# Altium schematic symbol library Schemati_design.SchLib: 14 symbols
Pins are listed as number, name and electrical type; pins without a type are passive.

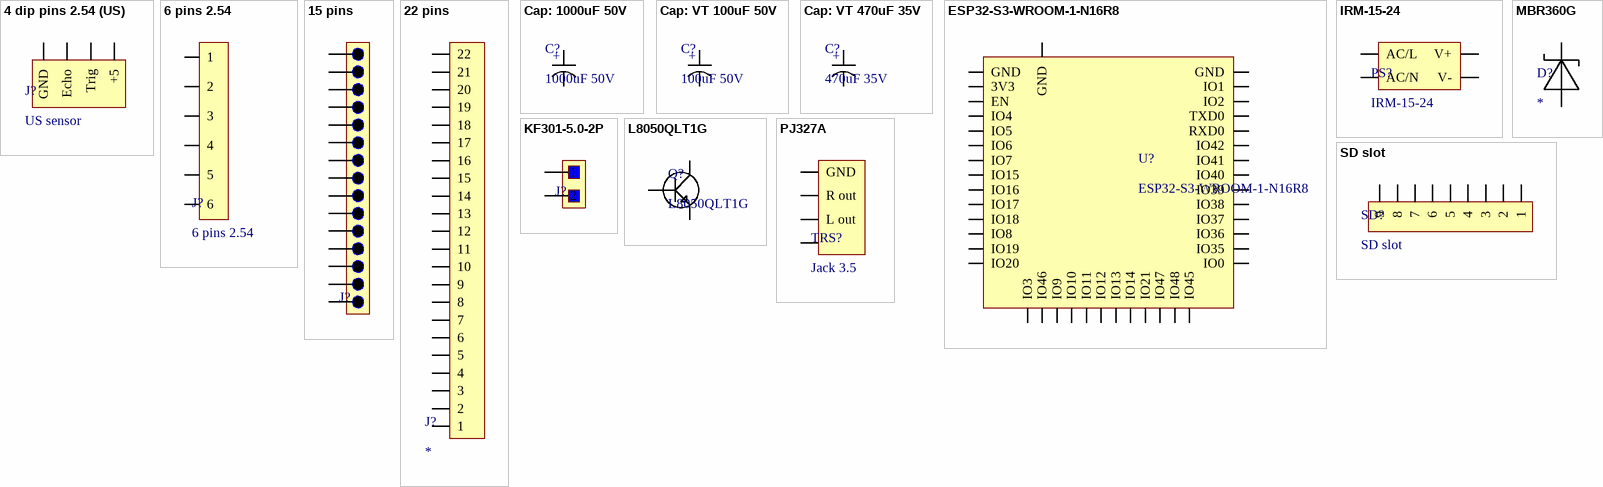
[diagram p0: symbols 4 dip pins 2.54 (US) to SD slot]

## 4 dip pins 2.54 (US)
designator J?, comment US sensor
footprint DIP 4 pins 2.54
pins: 1 GND, 2 Echo, 3 Trig, 4 +5

## 6 pins 2.54
designator J?
footprint 6 pins 2.54mm
pins: 1, 2, 3, 4, 5, 6

## 15 pins
designator J?, comment 13 pins  (value not drawn)
footprint 15 pins 2.54
pins: 1, 2, 3, 4, 5, 6, 7, 8, 9, 10, 11, 12, 13, 14, 15

## 22 pins
designator J?
footprint 22 pins
pins: 1, 2, 3, 4, 5, 6, 7, 8, 9, 10, 11, 12, 13, 14, 15, 16, 17, 18, 19, 20, 21, 22

## Cap: 1000uF 50V
designator C?, comment 1000uF 50V
Capacitance: 1000uF; Voltage Rating (DC): 50V
footprint CAP: dip 1000uF 50V
pins: 1 +, 2 -

## Cap: VT 100uF 50V
designator C?, comment 100uF 50V
Capacitance: 100uF; Voltage Rating (DC): 50V
footprint CAP VT 100uF 50V
pins: 1 +, 2 -

## Cap: VT 470uF 35V
designator C?, comment 470uF 35V
Capacitance: 470uF; Voltage Rating (DC): 35V
footprint CAP VT 470uF 35V
pins: 1 +, 2 -

## ESP32-S3-WROOM-1-N16R8
designator U?
SMD mod, ESP32-S3R8 with 3.3V, 8MB Octal PSRAM die insid, 6MBQuad SPI flash, pcb ant; Manufacturer: Espressif Systems; Supplier: Mouser; Supplier Part Number: 356-ESP32S3WRM1N16R8; Manufacturer Part Number: ESP32-S3-WROOM-1-N16R8; RoHS: No; Category: LDO; Pricing: 1=6,71, 10=6,15, 50=5,6, 100=5,03, 1000=4,3, 10000=4,3 (USD); ComponentLink1URL: https://datasheet.octopart.com/ESP32-S3-WROOM-1-N16R8-Espressif-Systems-datasheet-188867343.pdf?src-supplier=TME; ComponentLink1Description: https://datasheet.octopart.com/ESP32-S3-WROOM-1-N16R8-Espressif-Systems-datasheet-188867343.pdf?src-supplier=TME
footprint ESP32_S3_Wroom1
pins: 1 GND, 2 3V3, 3 EN, 4 IO4, 5 IO5, 6 IO6, 7 IO7, 8 IO15, 9 IO16, 10 IO17, 11 IO18, 12 IO8, 13 IO19, 14 IO20, 15 IO3, 16 IO46, 17 IO9, 18 IO10, 19 IO11, 20 IO12, 21 IO13, 22 IO14, 23 IO21, 24 IO47, 25 IO48, 26 IO45, 27 IO0, 28 IO35, 29 IO36, 30 IO37, 31 IO38, 32 IO39, 33 IO40, 34 IO41, 35 IO42, 36 RXD0, 37 TXD0, 38 IO2, 39 IO1, 40 GND, 41 GND

## IRM-15-24
designator PS?
AC to DC Power Supply Encapsulated Single Output 24 Volts 0.63 Amps 15.12 Watts; Manufacturer: Mean Well; Supplier: Arrow Electronics; Supplier Part Number: IRM-15-24; Manufacturer Part Number: IRM-15-24; RoHS: Yes; Category: Board Mount Modules; Stock: 2118; Pricing: 1=8,6, 5=8,24 (USD); ComponentLink1URL: https://datasheet.ciiva.com/48990/70387824-48990022.pdf?src-supplier=Allied+Electronics; ComponentLink1Description: https://datasheet.ciiva.com/48990/70387824-48990022.pdf?src-supplier=Allied+Electronics; ComponentLink2URL: https://datasheet.ciiva.com/30199/910irm-15-spec-30199847.pdf?src-supplier=Onlinecomponents.com; ComponentLink2Description: https://datasheet.ciiva.com/30199/910irm-15-spec-30199847.pdf?src-supplier=Onlinecomponents.com
footprint IRM 15-24
pins: 1 AC/L, 2 AC/N, 3 V-, 4 V+

## KF301-5.0-2P
designator J?, comment KF301  (value not drawn)
footprint KF301-2P
pins: 1, 2

## L8050QLT1G
designator Q?
footprint SOT95P245X110-3N (SOT23, 3-Leads, Body 2,90x2,45mm, Pitch 0,95mm, IPC Medium Density)
pins: 1 Base, 2 Emitter, 3 Collector

## MBR360G
designator D?
Rectifier Diode, Schottky, 1 Phase, 1 Element, 3A, 60V V(RRM), Silicon, DO-201AD; Manufacturer: onsemi; Manufacturer Part Number: MBR360G; Color: Green; Max Reverse Current: 600uA; Max Surge Current: 80A; Element Configuration: Single; Polarity: Standard; Lens Style: Diffused; Luminous Intensity: 15mcd; Power Rating: 52mW; Supplier: Avnet; Supplier Part Number: MBR360G; RoHS: Yes; Category: Schottky Diodes; Stock: 279; Pricing: 500=0,16169, 510=0,15835, 1100=0,15514, 2500=0,15105, 5000=0,14813 (USD); Case/Package: DO-201AD; Pins: 2; Case Code (Imperial): 0603; Case Code (Metric): 1608; Min Operating Temperature: -65°C; Max Operating Temperature: 150°C; Forward Current: 3A; Package Quantity: 500; Packaging: Bulk; Max Reverse Leakage Current: 600uA; Average Rectified Current: 3A; Max Repetitive Reverse Voltage (Vrrm): 60V; Peak Non-Repetitive Surge Current: 80A; Max Forward Surge Current (Ifsm): 80A; Voltage Rating (DC): 60V; Current Rating: 3A; Output Current: 3A; Max Reverse Voltage (DC): 60V; Series: -; Illumination Color: Green; Breakdown Voltage: 60V; Diameter: 5.3mm; Length: 0.374inch; Width: 5.3mm; Height: 5.3mm; Radiation Hardening: No; Reach SVHC Compliant: No; Lead Free: Lead Free; Halogen Free: Halogen Free; RoHS Compliant: Yes; ComponentLink1URL: https://datasheet.ciiva.com/915/mbr350-d-915938.pdf?src-supplier=Avnet; ComponentLink1Description: https://datasheet.ciiva.com/915/mbr350-d-915938.pdf?src-supplier=Avnet; ComponentLink2URL: https://datasheet.ciiva.com/27050/886711-27050614.pdf?src-supplier=Jameco; ComponentLink2Description: https://datasheet.ciiva.com/27050/886711-27050614.pdf?src-supplier=Jameco; ComponentLink3URL: https://datasheet.ciiva.com/7962/85926-7962998.pdf?src-supplier=Element14; ComponentLink3Description: https://datasheet.ciiva.com/7962/85926-7962998.pdf?src-supplier=Element14; ComponentLink4URL: https://datasheet.ciiva.com/14560/70099825-14560826.pdf?src-supplier=Allied+Electronics; ComponentLink4Description: https://datasheet.ciiva.com/14560/70099825-14560826.pdf?src-supplier=Allied+Electronics
footprint MBR360G
pins: 1, 2

## PJ327A
designator TRS?, comment Jack 3.5
footprint PJ-327A
pins: 1 GND, 2 R out, 3 L out, 4

## SD slot
designator SD?
footprint Micro SD slot
pins: 1, 2, 3, 4, 5, 6, 7, 8, 9